# Altium schematic symbol library Zmod.SchLib: 44 symbols
Pins are listed as number, name and electrical type; pins without a type are passive.

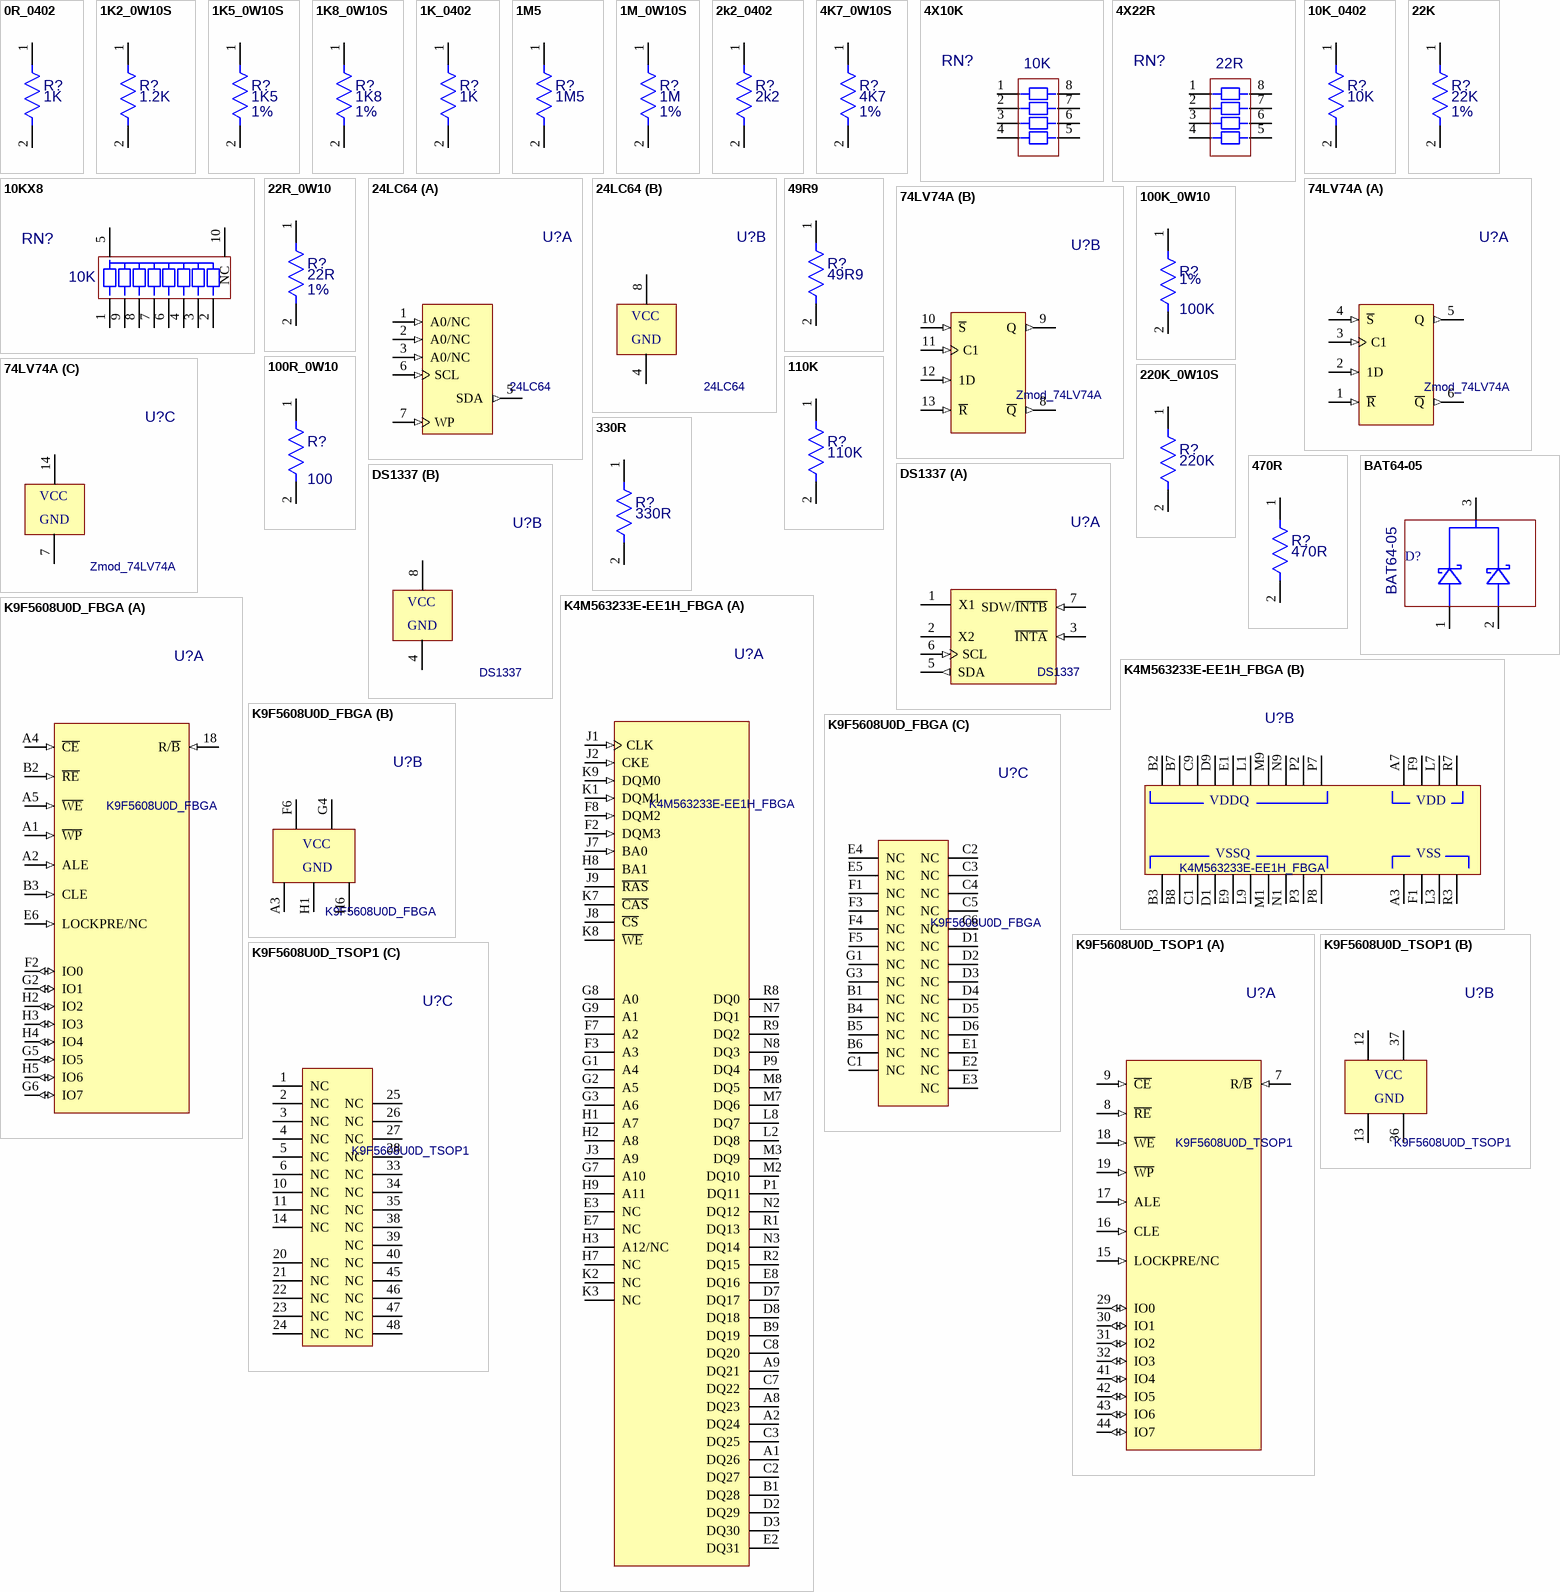
[diagram p0: symbols 0R_0402 to K9F5608U0D_TSOP1]

## 0R_0402
designator R?  value 1K  (hidden comment: 0R_0402)
Resistor, 0R_0402; PartNumber: ZivMod_0R_0402; Power Rating: 0W10; ECAD_Revision: 1; Librarian: UK; Tolerance: 1%; Item: *
simulation model RESISTOR
signal-integrity model Res
footprint 2-0402 (Chip Resistor; Body 1 x 0.5 mm (LxW typ))
footprint 1005[0402] (Chip Resistor; Body 1.1 x 0.5 mm (LxW typ))
pins: 1, 2

## 1K2_0W10S
designator R?, comment value 1.2K  (hidden comment: Zmod_1.2K)
Resistor, 1.2K; Power Rating: 0W10; ECAD_Revision: 1; Librarian: UK; Tolerance: 1%; PartNumber: Zmod_1.2K; Item: *
simulation model RESISTOR
footprint R0603
signal-integrity model Res
pins: 1, 2

## 1K5_0W10S
designator R?, comment value 1K5  Tolerance: 1%  (hidden comment: RXF1K5000/FZQ)
Resistor, 1.5K; Power Rating: 0W10; ECAD_Revision: 1; Librarian: UK; PartNumber: RXF1K5000/FZQ; Item: *
simulation model RESISTOR
footprint R0603
signal-integrity model Res
pins: 1, 2

## 1K8_0W10S
designator R?, comment value 1K8  Tolerance: 1%  (hidden comment: RXF1K8000/FZQ)
Resistor, 1K8; Power Rating: 0W10; ECAD_Revision: 1; Librarian: UK; PartNumber: RXF1K8000/FZQ; Item: *
simulation model RESISTOR
footprint R0603
signal-integrity model Res
pins: 1, 2

## 1K_0402
designator R?  value 1K  (hidden comment: 1K_0402)
Resistor, 1K_0402; PartNumber: ZivMod_1K_0402; Power Rating: 0W10; ECAD_Revision: 1; Librarian: UK; Tolerance: 1%; Item: *
simulation model RESISTOR
signal-integrity model Res
footprint 2-0402 (Chip Resistor; Body 1 x 0.5 mm (LxW typ))
footprint 1005[0402] (Chip Resistor; Body 1.1 x 0.5 mm (LxW typ))
pins: 1, 2

## 1M5
designator R?, comment value 1M5  (hidden comment: Zmod_1M5)
Resistor, 1.5M; Power Rating: 0W63; ECAD_Revision: 1; Librarian: UK; Tolerance: 1%; PartNumber: Zmod_1M5; Item: *
simulation model RESISTOR
footprint R0603
signal-integrity model Res
pins: 1, 2

## 1M_0W10S
designator R?, comment value 1M  Tolerance: 1%  (hidden comment: RXF1M0000/FZQ)
Resistor, 1M; Power Rating: 0W10; ECAD_Revision: 1; Librarian: UK; PartNumber: RXF1M0000/FZQ; Item: *
simulation model RESISTOR
footprint R0603
signal-integrity model Res
pins: 1, 2

## 2k2_0402
designator R?  value 2k2  (hidden comment: 2k2_0402)
Resistor, 2k2_0402; PartNumber: ZivMod_2k2_0402; Power Rating: 0W10; ECAD_Revision: 1; Librarian: UK; Tolerance: 1%; Item: *
simulation model RESISTOR
signal-integrity model Res
footprint 2-0402 (Chip Resistor; Body 1 x 0.5 mm (LxW typ))
footprint 1005[0402] (Chip Resistor; Body 1.1 x 0.5 mm (LxW typ))
pins: 1, 2

## 4K7_0W10S
designator R?, comment value 4K7  Tolerance: 1%  (hidden comment: RXF4K7000/FZQ)
Resistor, 4.7K; Power Rating: 0W10; ECAD_Revision: 1; Librarian: UK; PartNumber: RXF4K7000/FZQ; Item: *
simulation model RESISTOR
footprint R0603
signal-integrity model Res
pins: 1, 2

## 4X10K
designator RN?, comment value 10K  (hidden comment: Zmod_4X10K)
Resistor Network, 4X10K; Power Rating: 63mW/R, 250mW Total; Tolerance: 5%; ECAD_Revision: 2; Librarian: US; PartNumber: Zmod_4X10K; Item: *; HelpURL: K:\ACCELEDA\PDF Spec Files\Resistor/BCN16 4.pdf
footprint SMRN8
pins: 1, 2, 3, 4, 5, 6, 7, 8

## 4X22R
designator RN?, comment value 22R  (hidden comment: Zmod_22R)
Resistor Network, 4X22R; Power Rating: 63mW/R, 250mW Total; Tolerance: 5%; ECAD_Revision: 2; Librarian: US; PartNumber: Zmod_22R; Item: *; HelpURL: K:\ACCELEDA\PDF Spec Files\Resistor/BCN16 4.pdf
footprint SMRN8
pins: 1, 2, 3, 4, 5, 6, 7, 8

## 10K_0402
designator R?  value 10K  (hidden comment: 10K_0402)
Resistor, 10K_0402; PartNumber: ZivMod_10K_0402; Power Rating: 0W10; ECAD_Revision: 1; Librarian: UK; Tolerance: 1%; Item: *
simulation model RESISTOR
signal-integrity model Res
footprint 2-0402 (Chip Resistor; Body 1 x 0.5 mm (LxW typ))
footprint 1005[0402] (Chip Resistor; Body 1.1 x 0.5 mm (LxW typ))
pins: 1, 2

## 10KX8
designator RN?  value 10K  (hidden comment: 10KX8)
Resistor Network, 10KX8; PartNumber: Zmod_10KX8; Power Rating: 63mW/R, 250mW Total; Tolerance: 5%; ECAD_Revision: 2; Librarian: US; Item: *; HelpURL: K:\ACCELEDA\PDF Spec Files\Resistor/BCN16 4.pdf
footprint SMRN10P
pins: 1, 2, 3, 4, 5, 6, 7, 8, 9, 10 NC

## 22K
designator R?  Tolerance: 1%  (hidden comment: 22K)
Resistor, 22K; PartNumber: Zmod_22K; Power Rating: 0W63; ECAD_Revision: 1; Librarian: UK; Item: *; Value: 22K
simulation model RESISTOR
footprint R0603
signal-integrity model Res
pins: 1, 2

## 22R_0W10
designator R?, comment value 22R  Tolerance: 1%  (hidden comment: AWT25-000137)
Resistor, 22R; Power Rating: 0W10; ECAD_Revision: 1; Librarian: UK; PartNumber: AWT25-000137; Item: *
simulation model RESISTOR
footprint R0603
signal-integrity model Res
pins: 1, 2

## 24LC64
designator U?
IC2_Serial_Rom; PartNumber: Zmod_24LC64; Power Rating: ??; ECAD_Revision: 1; Librarian: UK; HelpURL: C:\ZRLaptop\Altium6Work_Laptop\ZIM_V1\Module\74lv74ad.pdf; Item: *
footprint TSSOP8
part A pins: 1 A0/NC (in), 2 A0/NC (in), 3 A0/NC (in), 5 SDA (out), 6 SCL (in), 7 WP (in)
part B pins: 4 (power), 8 (power)
part B text: VCC; GND

## 49R9
designator R?
Resistor, 49R9; PartNumber: Zmod_49R9; Power Rating: 0W63; ECAD_Revision: 1; Librarian: UK; Tolerance: 1%; Item: *; Value: 49R9
simulation model RESISTOR
footprint R0603
signal-integrity model Res
pins: 1, 2

## 74LV74A
designator U?, comment Zmod_74LV74A
Dual_Positive_Edged_Dtype_triggered_Flipflops; Power Rating: ??; ECAD_Revision: 1; Librarian: UK; PartNumber: Zmod_74LV74A; HelpURL: C:\ZRLaptop\Altium6Work_Laptop\ZIM_V1\Module\74lv74ad.pdf; Item: *
footprint SOIC14
footprint DB014 (SSOP, Plastic; 14 Leads; Body Width 5.3 mm; Pitch 0.65 mm)
footprint PW014 (Shrink Small Outline; 14 Leads; Body Width 4.4 mm; Pitch 0.65 mm)
part A pins: 1 ~{R} (in), 2 1D (in), 3 C1 (in), 4 ~{S} (in), 5 Q (out), 6 ~{Q} (out)
part B pins: 8 ~{Q} (out), 9 Q (out), 10 ~{S} (in), 11 C1 (in), 12 1D (in), 13 ~{R} (in)
part C pins: 7 (power), 14 (power)
part C text: VCC; GND

## 100K_0W10
designator R?, comment value 100K  Tolerance: 1%  (hidden comment: 53635-4814)
Resistor, 100K; Power Rating: 0W10; ECAD_Revision: 1; Librarian: US; PartNumber: 53635-4814; Item: *
simulation model RESISTOR
footprint R0603
signal-integrity model Res
pins: 1, 2

## 100R_0W10
designator R?, comment 100
Resistor, 100 Ohms; PartNumber: 53635-1935; Power Rating: 0W635; ECAD_Revision: 1; Librarian: US; Tolerance: 1%; Item: *; Value: 100
simulation model RESISTOR
footprint R0603
signal-integrity model Res
pins: 1, 2

## 110K
designator R?
Resistor, 110K; PartNumber: Zmod_110K; Power Rating: 0W10; ECAD_Revision: 1; Librarian: UK; Tolerance: 1%; Item: *; Value: 110K
simulation model RESISTOR
footprint R0603
signal-integrity model Res
pins: 1, 2

## 220K_0W10S
designator R?, comment value 220K  (hidden comment: ZivMod_TBA)
Resistor, 220K; Power Rating: 0W10; ECAD_Revision: 1; Librarian: UK; Tolerance: 1%; TempCoefficient: 100ppm; PartNumber: ZivMod_TBA; Item: *
simulation model RESISTOR
footprint R0603
signal-integrity model Res
pins: 1, 2

## 330R
designator R?
Resistor, 330R; PartNumber: ZivMod_TBA; Power Rating: 0W6325; ECAD_Revision: 1; Librarian: UK; Tolerance: 1%; TempCoefficient: 200ppm; Item: *; Value: 330R
simulation model RESISTOR
footprint R0603
signal-integrity model Res
pins: 1, 2

## 470R
designator R?
Resistor, 470R; PartNumber: ZivMod_TBA; Power Rating: 0W6325; ECAD_Revision: 1; Librarian: UK; Tolerance: 1%; TempCoefficient: NA; Item: *; Value: 470R
simulation model RESISTOR
footprint R0603
signal-integrity model Res
pins: 1, 2

## BAT64-05
designator D?
Diode, BAT64-05; ECAD_Revision: 2; Librarian: UK; PartNumber: BAT64-05; HelpURL: *; Item: *; Tolerance: *; Value: BAT64-05
footprint SOT23
pins: 1 A, 2 A, 3 COM

## DS1337
designator U?
IC2_Real_time_Clock; PartNumber: Zmod_DS1337; Power Rating: ??; ECAD_Revision: 1; Librarian: UK; HelpURL: C:\ZRLaptop\Altium6Work_Laptop\ZIM_V1\Module\74lv74ad.pdf; Item: *
footprint 8uSOP (Shrink Small Outline; 8 Leads; Body Width 3 mm; Pitch 0.65 mm)
footprint uSOP8 (Shrink Small Outline; 8 Leads; Body Width 3 mm; Pitch 0.65 mm)
part A pins: 1 X1, 2 X2, 3 ~{INTA} (in), 5 SDA (out), 6 SCL (in), 7 SDW/~{INTB} (in)
part B pins: 4 (power), 8 (power)
part B text: VCC; GND

## K4M563233E-EE1H_FBGA
designator U?
32M*8_Flash_Memory; PartNumber: Zmod_K4M563233E-EE1H_FBGA; Power Rating: ??; ECAD_Revision: 1; Librarian: UK; HelpURL: C:\ZRLaptop\Altium6Work_Laptop\ZIM_V1\Module\74lv74ad.pdf; Item: *
part A pins: A1 DQ26 (power), A2 DQ24 (power), A8 DQ23 (power), A9 DQ21 (power), B1 DQ28 (power), B9 DQ19 (power), C2 DQ27 (power), C3 DQ25 (power), C7 DQ22 (power), C8 DQ20 (power), D2 DQ29 (power), D3 DQ30 (power), D7 DQ17 (power), D8 DQ18 (power), E2 DQ31 (power), E3 NC (power), E7 NC (power), E8 DQ16 (power), F2 DQM3 (in), F3 A3 (power), F7 A2 (power), F8 DQM2 (in), G1 A4 (power), G2 A5 (power), G3 A6 (power), G7 A10 (power), G8 A0 (power), G9 A1 (power), H1 A7 (power), H2 A8 (power), H3 A12/NC (power), H7 NC (power), H8 BA1 (power), H9 A11 (power), J1 CLK (in), J2 CKE (in), J3 A9 (power), J7 BA0 (in), J8 ~{CS} (power), J9 ~{RAS} (power), K1 DQM1 (in), K2 NC (power), K3 NC (power), K7 ~{CAS} (power), K8 ~{WE} (power), K9 DQM0 (in), L2 DQ8 (power), L8 DQ7 (power), M2 DQ10 (power), M3 DQ9 (power), M7 DQ6 (power), M8 DQ5 (power), N2 DQ12 (power), N3 DQ14 (power), N7 DQ1 (power), N8 DQ3 (power), P1 DQ11 (power), P9 DQ4 (power), R1 DQ13 (power), R2 DQ15 (power), R8 DQ0 (power), R9 DQ2 (power)
part B pins: A3 (power), A7 (power), B2 (power), B3 (power), B7 (power), B8 (power), C1 (power), C9 (power), D1 (power), D9 (power), E1 (power), E9 (power), F1 (power), F9 (power), L1 (power), L3 (power), L7 (power), L9 (power), M1 (power), M9 (power), N1 (power), N9 (power), P2 (power), P3 (power), P7 (power), P8 (power), R3 (power), R7 (power)
part B text: VDDQ; VDD; VSSQ; VSS

## K9F5608U0D_FBGA
designator U?
32M*8_Flash_Memory; PartNumber: Zmod_K9F5608U0D_FBGA; Power Rating: ??; ECAD_Revision: 1; Librarian: UK; HelpURL: C:\ZRLaptop\Altium6Work_Laptop\ZIM_V1\Module\74lv74ad.pdf; Item: *
part A pins: 18 R/~{B} (in), A1 ~{WP} (in), A2 ALE (in), A4 ~{CE} (in), A5 ~{WE} (in), B2 ~{RE} (in), B3 CLE (in), E6 LOCKPRE/NC (in), F2 IO0 (io), G2 IO1 (io), G5 IO5 (io), G6 IO7 (io), H2 IO2 (io), H3 IO3 (io), H4 IO4 (io), H5 IO6 (io)
part B pins: A3 (power), F6 (power), G4 (power), H1 (power), H6 (power)
part C pins: B1 NC, B4 NC, B5 NC, B6 NC, C1 NC, C2 NC, C3 NC, C4 NC, C5 NC, C6 NC, D1 NC, D2 NC, D3 NC, D4 NC, D5 NC, D6 NC, E1 NC, E2 NC, E3 NC, E4 NC, E5 NC, F1 NC, F3 NC, F4 NC, F5 NC, G1 NC, G3 NC
part B text: VCC; GND

## K9F5608U0D_TSOP1
designator U?
32M*8_Flash_Memory; PartNumber: Zmod_K9F5608U0D_TSOP1; Power Rating: ??; ECAD_Revision: 1; Librarian: UK; HelpURL: C:\ZRLaptop\Altium6Work_Laptop\ZIM_V1\Module\74lv74ad.pdf; Item: *
footprint TSOP48
footprint TSOP10x18 (Shrink Small Outline; 48 Leads; Body Width 16.4 mm; Pitch 0.4 mm)
footprint TSOP48
part A pins: 7 R/~{B} (in), 8 ~{RE} (in), 9 ~{CE} (in), 15 LOCKPRE/NC (in), 16 CLE (in), 17 ALE (in), 18 ~{WE} (in), 19 ~{WP} (in), 29 IO0 (io), 30 IO1 (io), 31 IO2 (io), 32 IO3 (io), 41 IO4 (io), 42 IO5 (io), 43 IO6 (io), 44 IO7 (io)
part B pins: 12 (power), 13 (power), 36 (power), 37 (power)
part C pins: 1 NC, 2 NC, 3 NC, 4 NC, 5 NC, 6 NC, 10 NC, 11 NC, 14 NC, 20 NC, 21 NC, 22 NC, 23 NC, 24 NC, 25 NC, 26 NC, 27 NC, 28 NC, 33 NC, 34 NC, 35 NC, 38 NC, 39 NC, 40 NC, 45 NC, 46 NC, 47 NC, 48 NC
part B text: VCC; GND

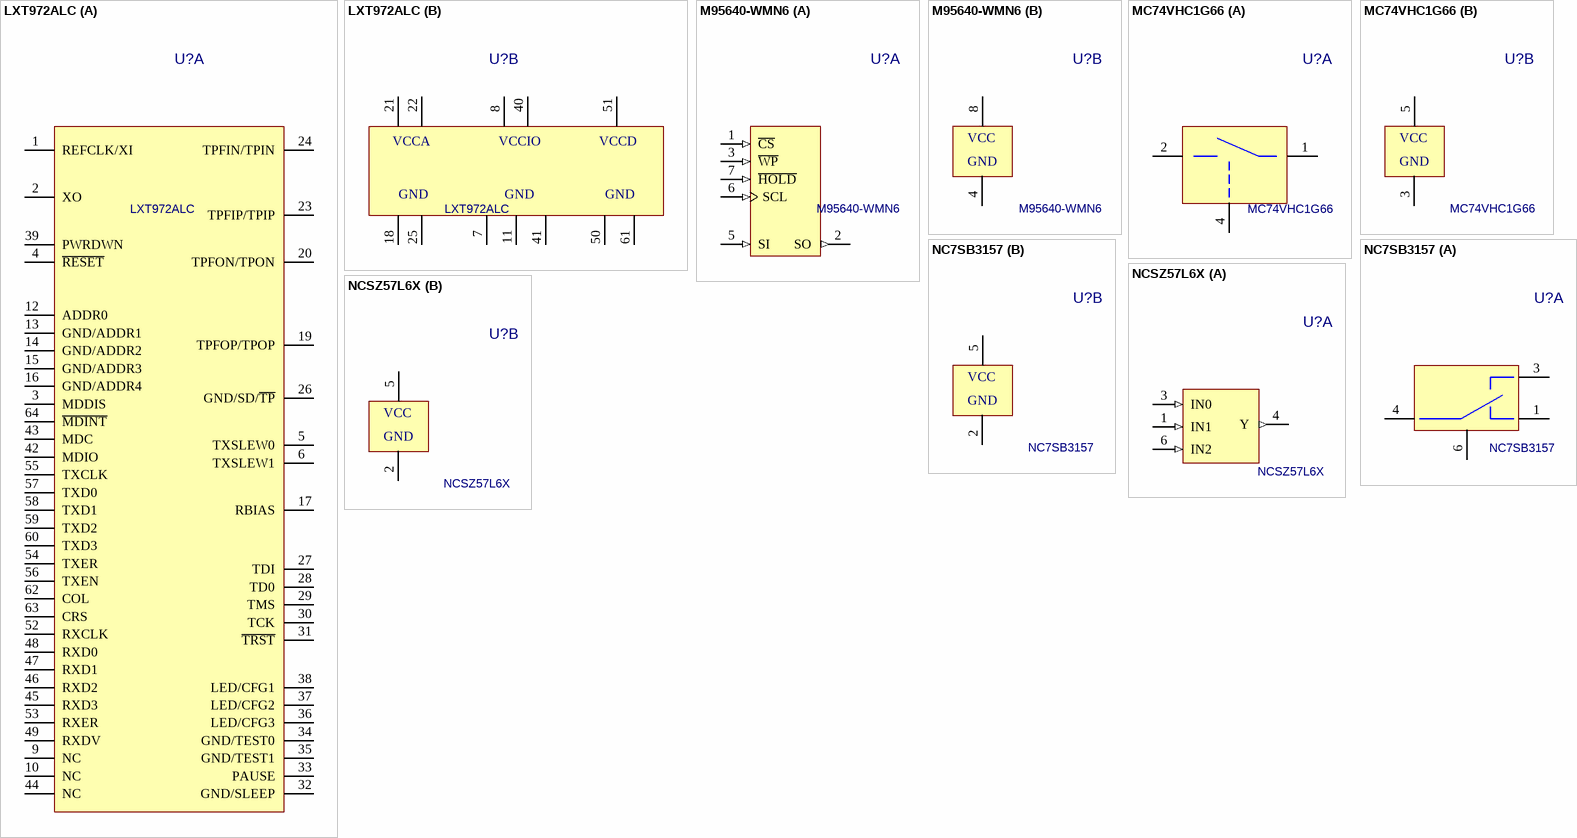
[diagram p1: symbols LXT972ALC to NCSZ57L6X]

## LXT972ALC
designator U?
SinglePort_10_100_PHY_Tranciever; PartNumber: Zmod_LXT972ALC; Power Rating: ??; ECAD_Revision: 1; Librarian: UK; HelpURL: C:\ZRLaptop\Altium6Work_Laptop\ZIM_V1\Module\74lv74ad.pdf; Item: *
footprint LQFP64
footprint LQFP64_N (64-Pin Thin Quad Flat Pack 0.8 mm Pitch, IPC Medium Density)
footprint LQFP64_N (64-Pin Thin Quad Flat Pack 0.8 mm Pitch, IPC Medium Density)
footprint LQFP64_M (64-Pin Thin Quad Flat Pack 0.8 mm Pitch, IPC Low Density)
footprint LQFP64_M (64-Pin Thin Quad Flat Pack 0.8 mm Pitch, IPC Low Density)
footprint LQFP64_L (64-Pin Thin Quad Flat Pack 0.8 mm Pitch, IPC High Density)
footprint LQFP64_N (64-Pin Thin Quad Flat Pack 0.8 mm Pitch, IPC Medium Density)
part A pins: 1 REFCLK/XI, 2 XO, 3 MDDIS, 4 ~{RESET}, 5 TXSLEW0, 6 TXSLEW1, 9 NC, 10 NC, 12 ADDR0, 13 GND/ADDR1, 14 GND/ADDR2, 15 GND/ADDR3, 16 GND/ADDR4, 17 RBIAS, 19 TPFOP/TPOP, 20 TPFON/TPON, 23 TPFIP/TPIP, 24 TPFIN/TPIN, 26 GND/SD/~{TP}, 27 TDI, 28 TD0, 29 TMS, 30 TCK, 31 ~{TRST}, 32 GND/SLEEP, 33 PAUSE, 34 GND/TEST0, 35 GND/TEST1, 36 LED/CFG3, 37 LED/CFG2, 38 LED/CFG1, 39 PWRDWN, 42 MDIO, 43 MDC, 44 NC, 45 RXD3, 46 RXD2, 47 RXD1, 48 RXD0, 49 RXDV, 52 RXCLK, 53 RXER, 54 TXER, 55 TXCLK, 56 TXEN, 57 TXD0, 58 TXD1, 59 TXD2, 60 TXD3, 62 COL, 63 CRS, 64 ~{MDINT}
part B pins: 7 (power), 8 (power), 11 (power), 18 (power), 21 (power), 22 (power), 25 (power), 40 (power), 41 (power), 50 (power), 51 (power), 61 (power)
part B text: VCCA; VCCIO; VCCD; GND

## M95640-WMN6
designator U?
IC2_Serial_EEPRom; PartNumber: Zmod_M95640-WMN6; Power Rating: ??; ECAD_Revision: 1; Librarian: UK; HelpURL: C:\ZRLaptop\Altium6Work_Laptop\ZIM_V1\Module\74lv74ad.pdf; Item: *
footprint SO8 (Small Outline; 8 Leads; Body Width 3.9 mm; Pitch 1.27 mm)
footprint SO-8_M (8-Pin Small Outline Integrated Circuit 1.27 mm Pitch, IPC Low Density)
footprint NSO8_L (8-Pin Small Outline Integrated Circuit 1.27 mm Pitch, IPC High Density)
part A pins: 1 ~{CS} (in), 2 SO (out), 3 ~{WP} (in), 5 SI (in), 6 SCL (in), 7 ~{HOLD} (in)
part B pins: 4 (power), 8 (power)
part B text: VCC; GND

## MC74VHC1G66
designator U?
Normally_Open_Analog_Switch; PartNumber: Zmod_MC74VHC1G66; Power Rating: ??; ECAD_Revision: 1; Librarian: UK; HelpURL: C:\ZRLaptop\Altium6Work_Laptop\ZIM_V1\Module\74lv74ad.pdf; Item: *
footprint DCK005 (SOT-353/SC-88A; 5 Leads; Body 2.2 x 2.3 mm, inc. leads (LxW max))
footprint SOT353 (SOT-353/SC-88A; 5 Leads; Body 2.2 x 2.2 mm, inc. leads (LxW max))
footprint SOT23-5
footprint SOT-23-5 (SOT-23/SC-74A; 5 Leads; Body 3 x 3.1 mm, inc. leads (LxW max))
part A pins: 1, 2, 4
part B pins: 3 (power), 5 (power)
part B text: VCC; GND

## NC7SB3157
designator U?
2:1_Mux_Demux_Bus_Switch; PartNumber: Zmod_NC7SB3157; Power Rating: ??; ECAD_Revision: 1; Librarian: UK; HelpURL: C:\ZRLaptop\Altium6Work_Laptop\ZIM_V1\Module\74lv74ad.pdf; Item: *
footprint SC70-6
part A pins: 1, 3, 4, 6
part B pins: 2 (power), 5 (power)
part B text: VCC; GND

## NCSZ57L6X
designator U?
Tiny_2Input_Logic_Gate; PartNumber: Zmod_NCSZ57L6X; Power Rating: ??; ECAD_Revision: 1; Librarian: UK; HelpURL: C:\ZRLaptop\Altium6Work_Laptop\ZIM_V1\Module\74lv74ad.pdf; Item: *
footprint SC70-6
part A pins: 1 IN1 (in), 3 IN0 (in), 4 Y (out), 6 IN2 (in)
part B pins: 2 (power), 5 (power)
part B text: VCC; GND

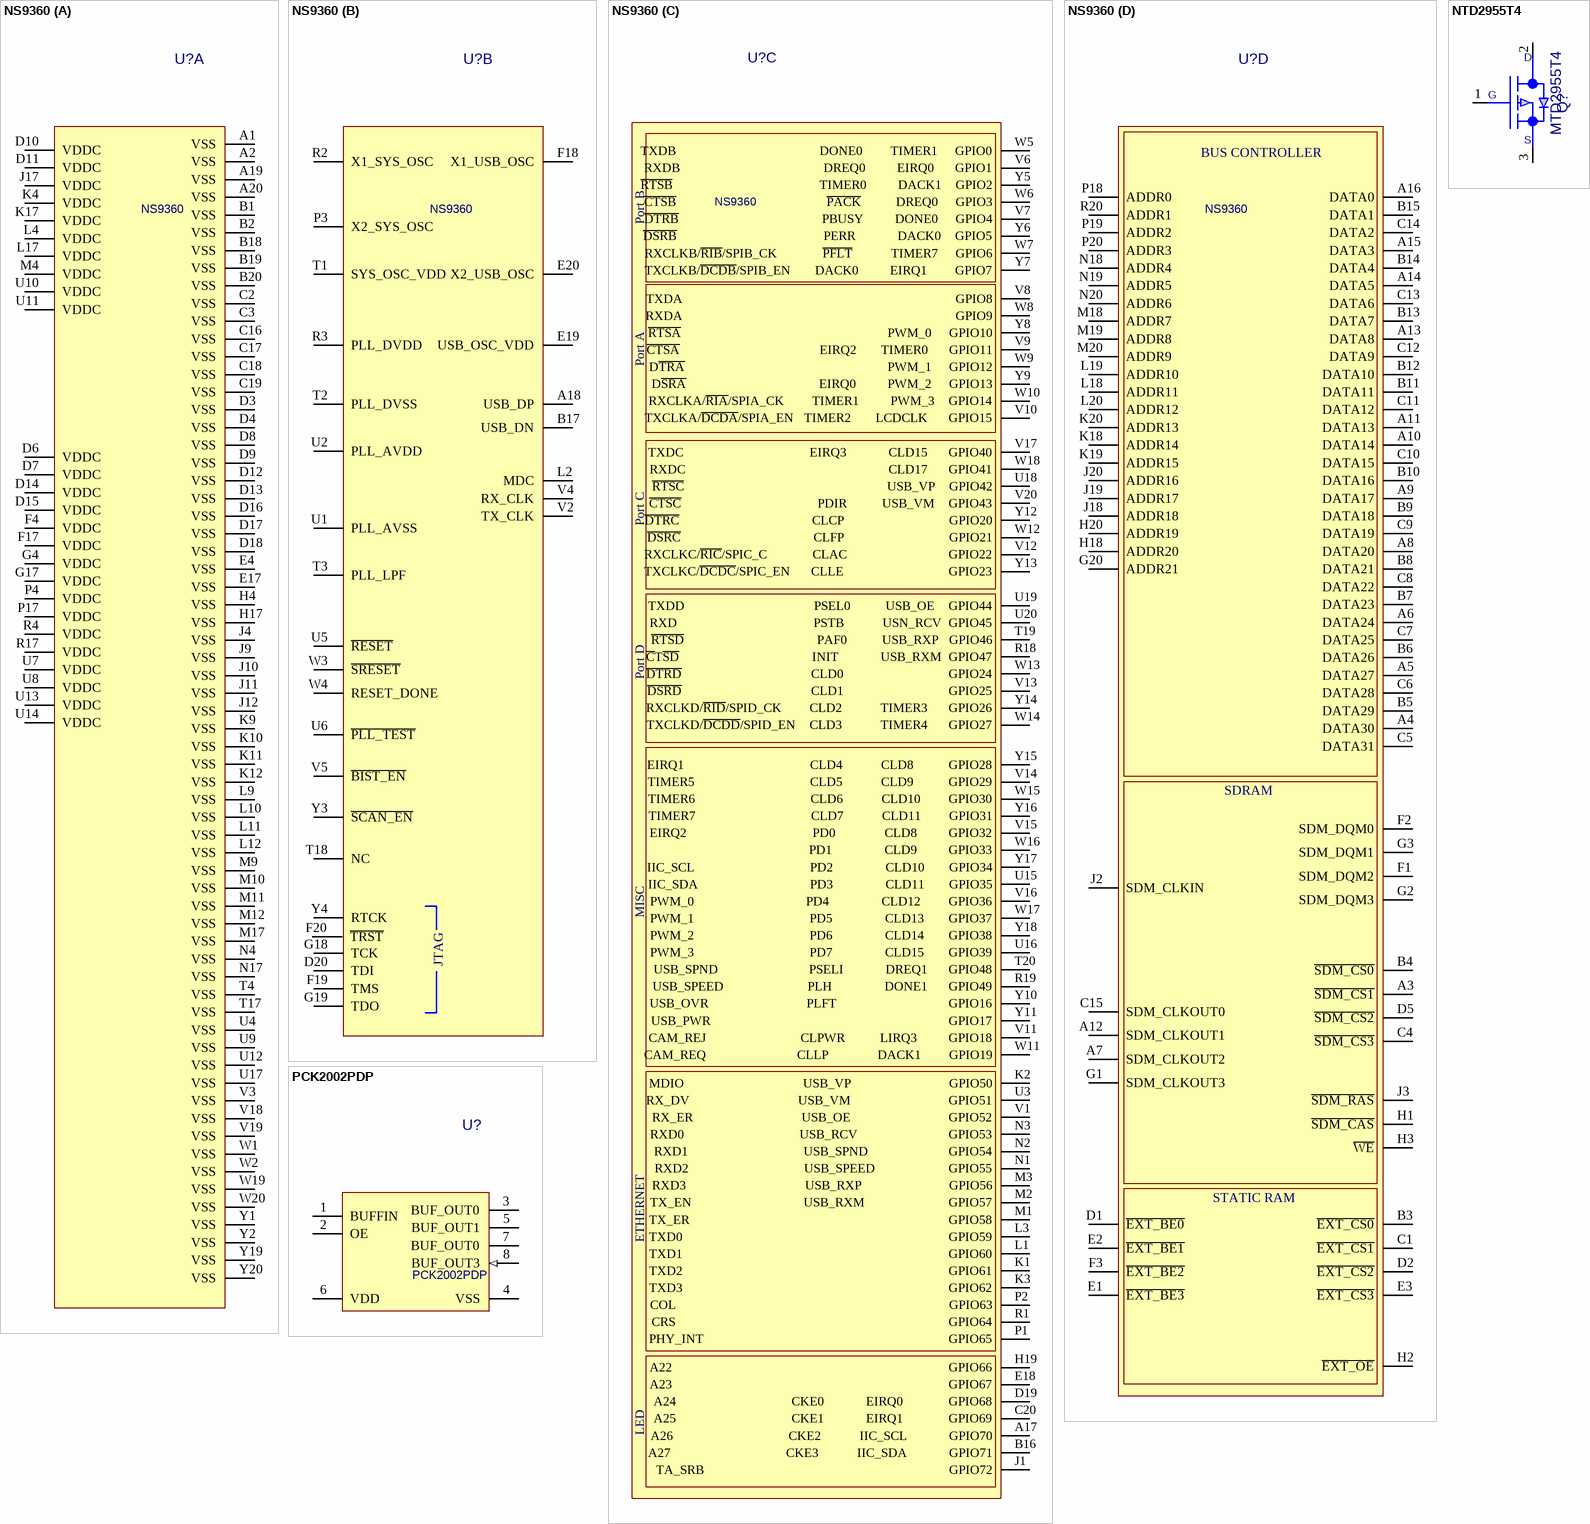
[diagram p2: symbols NS9360 to PCK2002PDP]

## NS9360
designator U?
ARM9_32bit_Microcontroller; PartNumber: Zmod_NS9360; Power Rating: ??; ECAD_Revision: 1; Librarian: UK; HelpURL: C:\ZRLaptop\Altium6Work_Laptop\ZIM_V1\Module\74lv74ad.pdf; Item: *
footprint BGA272 (272-Ball Ball Grid Array (BGA272))
footprint BGA272 (272-Ball Ball Grid Array (BGA272))
part A pins: A1 VSS (power) "0V POWER", A2 VSS (power) "0V POWER", A19 VSS (power) "0V POWER", A20 VSS (power) "0V POWER", B1 VSS (power) "0V POWER", B2 VSS (power) "0V POWER", B18 VSS (power) "0V POWER", B19 VSS (power) "0V POWER", B20 VSS (power) "0V POWER", C2 VSS (power) "0V POWER", C3 VSS (power) "0V POWER", C16 VSS (power) "0V POWER", C17 VSS (power) "0V POWER", C18 VSS (power) "0V POWER", C19 VSS (power) "0V POWER", D3 VSS (power) "0V POWER", D4 VSS (power) "0V POWER", D6 VDDC, D7 VDDC, D8 VSS (power) "0V POWER", D9 VSS (power) "0V POWER", D10 VDDC, D11 VDDC, D12 VSS (power) "0V POWER", D13 VSS (power) "0V POWER", D14 VDDC, D15 VDDC, D16 VSS (power) "0V POWER", D17 VSS (power) "0V POWER", D18 VSS (power) "0V POWER", E4 VSS (power) "0V POWER", E17 VSS (power) "0V POWER", F4 VDDC, F17 VDDC, G4 VDDC, G17 VDDC, H4 VSS (power) "0V POWER", H17 VSS (power) "0V POWER", J4 VSS (power) "0V POWER", J9 VSS (power) "0V POWER", J10 VSS (power) "0V POWER", J11 VSS (power) "0V POWER", J12 VSS (power) "0V POWER", J17 VDDC, K4 VDDC, K9 VSS (power) "0V POWER", K10 VSS (power) "0V POWER", K11 VSS (power) "0V POWER", K12 VSS (power) "0V POWER", K17 VDDC, L4 VDDC, L9 VSS (power) "0V POWER", L10 VSS (power) "0V POWER", L11 VSS (power) "0V POWER", L12 VSS (power) "0V POWER", L17 VDDC, M4 VDDC, M9 VSS (power) "0V POWER", M10 VSS (power) "0V POWER", M11 VSS (power) "0V POWER", M12 VSS (power) "0V POWER", M17 VSS (power) "0V POWER", N4 VSS (power) "0V POWER", N17 VSS (power) "0V POWER", P4 VDDC, P17 VDDC, R4 VDDC, R17 VDDC, T4 VSS (power) "0V POWER", T17 VSS (power) "0V POWER", U4 VSS (power) "0V POWER", U7 VDDC, U8 VDDC, U9 VSS (power) "0V POWER", U10 VDDC, U11 VDDC, U12 VSS (power) "0V POWER", U13 VDDC, U14 VDDC, U17 VSS (power) "0V POWER", V3 VSS (power) "0V POWER", V18 VSS (power) "0V POWER", V19 VSS (power) "0V POWER", W1 VSS (power) "0V POWER", W2 VSS (power) "0V POWER", W19 VSS (power) "0V POWER", W20 VSS (power) "0V POWER", Y1 VSS (power) "0V POWER", Y2 VSS (power) "0V POWER", Y19 VSS (power) "0V POWER", Y20 VSS (power) "0V POWER"
part B pins: A18 USB_DP, B17 USB_DN, D20 TDI, E19 USB_OSC_VDD, E20 X2_USB_OSC, F18 X1_USB_OSC, F19 TMS, F20 ~{TRST}, G18 TCK, G19 TDO, L2 MDC, P3 X2_SYS_OSC, R2 X1_SYS_OSC, R3 PLL_DVDD, T1 SYS_OSC_VDD, T2 PLL_DVSS, T3 PLL_LPF, T18 NC, U1 PLL_AVSS, U2 PLL_AVDD, U5 ~{RESET}, U6 ~{PLL_TEST}, V2 TX_CLK, V4 RX_CLK, V5 ~{BIST_EN}, W3 ~{SRESET}, W4 RESET_DONE, Y3 ~{SCAN_EN}, Y4 RTCK
part C pins: A17 A26                                 CKE2           IIC_SCL            GPIO70, B16 A27                                 CKE3           IIC_SDA            GPIO71, C20 A25                                 CKE1            EIRQ1             GPIO69, D19 A24                                 CKE0            EIRQ0             GPIO68, E18 A23                                                                               GPIO67, H19 A22                                                                               GPIO66, J1 TA_SRB                                                                      GPIO72, K1 TXD2                                                                            GPIO61, K2 MDIO                                  USB_VP                            GPIO50, K3 TXD3                                                                            GPIO62, L1 TXD1                                                                            GPIO60, L3 TXD0                                                                            GPIO59, M1 TX_ER                                                                          GPIO58, M2 TX_EN                                USB_RXM                        GPIO57, M3 RXD3                                  USB_RXP                         GPIO56, N1 RXD2                                 USB_SPEED                     GPIO55, N2 RXD1                                 USB_SPND                       GPIO54, N3 RXD0                                 USB_RCV                          GPIO53, P1 PHY_INT                                                                      GPIO65, P2 COL                                                                              GPIO63, R1 CRS                                                                              GPIO64, R18 ~{C}T~{SD}                                      INIT            USB_RXM  GPIO47, R19 USB_SPEED                        PLH               DONE1      GPIO49, T19 ~{RTSD}                                      PAF0          USB_RXP   GPIO46, T20 USB_SPND                          PSELI            DREQ1      GPIO48, U3 RX_DV                               USB_VM                            GPIO51, U15 IIC_SDA                                PD3               CLD11       GPIO35, U16 PWM_3                                 PD7               CLD15       GPIO39, U18 ~{RTSC}                                                          USB_VP    GPIO42, U19 TXDD                                     PSEL0          USB_OE    GPIO44, U20 RXD                                       PSTB           USN_RCV  GPIO45, V1 RX_ER                               USB_OE                            GPIO52, V6 RXDB                                         DREQ0         EIRQ0      GPIO1, V7 ~{DTRB}                                         PBUSY         DONE0     GPIO4, V8 TXDA                                                                              GPIO8, V9 ~{CTSA}                                        EIRQ2       TIMER0      GPIO11, V10 TXCLKA/~{DCDA}/SPIA_EN   TIMER2       LCDCLK      GPIO15, V11 CAM_REJ                           CLPWR          LIRQ3         GPIO18, V12 RXCLKC/~{RIC}/SPIC_C             CLAC                             GPIO22, V13 ~{DSRD}                                     CLD1                              GPIO25, V14 TIMER5                                 CLD5           CLD9          GPIO29, V15 EIRQ2                                    PD0              CLD8         GPIO32, V16 PWM_0                                PD4               CLD12        GPIO36, V17 TXDC                                    EIRQ3            CLD15      GPIO40, V20 ~{CTSC}                                       PDIR          USB_VM    GPIO43, W5 TXDB                                         DONE0        TIMER1     GPIO0, W6 ~{CTSB}                                           ~{PACK}          DREQ0     GPIO3, W7 RXCLKB/~{RIB}/SPIB_CK             ~{PFLT}           TIMER7     GPIO6, W8 RXDA                                                                              GPIO9, W9 D~{TRA}                                                          PWM_1     GPIO12, W10 RXCLKA/~{RIA}/SPIA_CK        TIMER1         PWM_3    GPIO14, W11 CAM_REQ                          CLLP              DACK1        GPIO19, W12 ~{DSRC}                                      CLFP                              GPIO21, W13 ~{DTRD}                                     CLD0                              GPIO24, W14 TXCLKD/~{DCDD}/SPID_EN    CLD3           TIMER4      GPIO27, W15 TIMER6                                 CLD6           CLD10        GPIO30, W16                                               PD1               CLD9         GPIO33, W17 PWM_1                                 PD5               CLD13       GPIO37, W18 RXDC                                                          CLD17      GPIO41, Y5  ~{RTSB}                                          TIMER0         DACK1    GPIO2, Y6 ~{DSRB}                                          PERR            DACK0    GPIO5, Y7 TXCLKB/~{DCDB}/SPIB_EN       DACK0         EIRQ1        GPIO7, Y8 ~{RTSA}                                                           PWM_0     GPIO10, Y9 D~{SRA}                                      EIRQ0         PWM_2     GPIO13, Y10 USB_OVR                            PLFT                                GPIO16, Y11 USB_PWR                                                                    GPIO17, Y12 ~{DTRC}                                      CLCP                              GPIO20, Y13 TXCLKC/~{DCDC}/SPIC_EN      CLLE                              GPIO23, Y14 RXCLKD/~{RID}/SPID_CK        CLD2           TIMER3      GPIO26, Y15 EIRQ1                                    CLD4           CLD8          GPIO28, Y16 TIMER7                                 CLD7           CLD11        GPIO31, Y17 IIC_SCL                                 PD2               CLD10       GPIO34, Y18 PWM_2                                 PD6               CLD14       GPIO38
part D pins: A3 ~{SDM_CS1}, A4 DATA30, A5 DATA27, A6 DATA24, A7 SDM_CLKOUT2, A8 DATA20, A9 DATA17, A10 DATA14, A11 DATA13, A12 SDM_CLKOUT1, A13 DATA8, A14 DATA5, A15 DATA3, A16 DATA0, B3 ~{EXT_CS0}, B4 ~{SDM_CS0}, B5 DATA29, B6 DATA26, B7 DATA23, B8 DATA21, B9 DATA18, B10 DATA16, B11 DATA11, B12 DATA10, B13 DATA7, B14 DATA4, B15 DATA1, C1 ~{EXT_CS1}, C4 ~{SDM_CS3}, C5 DATA31, C6 DATA28, C7 DATA25, C8 DATA22, C9 DATA19, C10 DATA15, C11 DATA12, C12 DATA9, C13 DATA6, C14 DATA2, C15 SDM_CLKOUT0, D1 ~{EXT_BE0}, D2 ~{EXT_CS2}, D5 ~{SDM_CS2}, E1 ~{EXT_BE3}, E2 ~{EXT_BE1}, E3 ~{EXT_CS3}, F1 SDM_DQM2, F2 SDM_DQM0, F3 ~{EXT_BE2}, G1 SDM_CLKOUT3, G2 SDM_DQM3, G3 SDM_DQM1, G20 ADDR21, H1 ~{SDM_CAS}, H2 ~{EXT_OE}, H3 ~{WE}, H18 ADDR20, H20 ADDR19, J2 SDM_CLKIN, J3 ~{SDM_RAS}, J18 ADDR18, J19 ADDR17, J20 ADDR16, K18 ADDR14, K19 ADDR15, K20 ADDR13, L18 ADDR11, L19 ADDR10, L20 ADDR12, M18 ADDR7, M19 ADDR8, M20 ADDR9, N18 ADDR4, N19 ADDR5, N20 ADDR6, P18 ADDR0, P19 ADDR2, P20 ADDR3, R20 ADDR1
part B text: JTAG
part C text: Port B; Port A; Port C; Port D; MISC; ETHERNET; LED
part D text: BUS CONTROLLER; SDRAM; STATIC RAM

## NTD2955T4
designator Q?, comment value MTD2955T4  (hidden comment: FXP/RFD15P05SM)
Transistor, MTD2955T4; ECAD_Revision: 2; Librarian: UK; PartNumber: FXP/RFD15P05SM; Item: *
footprint DPAK
pins: 1 G, 2 D, 3 S

## PCK2002PDP
designator U?
140Mhz_PCI_Clock_Buffer; PartNumber: Zmod_PCK2002PDP; Power Rating: ??; ECAD_Revision: 1; Librarian: UK; HelpURL: C:\ZRLaptop\Altium6Work_Laptop\ZIM_V1\Module\74lv74ad.pdf; Item: *
footprint TSSOP8
footprint TSSOP-8 (Shrink Small Outline; 8 Leads; Body Width 4.4 mm; Pitch 0.65 mm)
pins: 1 BUFFIN, 2 OE, 3 BUF_OUT0, 4 VSS, 5 BUF_OUT1, 6 VDD, 7 BUF_OUT0, 8 BUF_OUT3 (in)

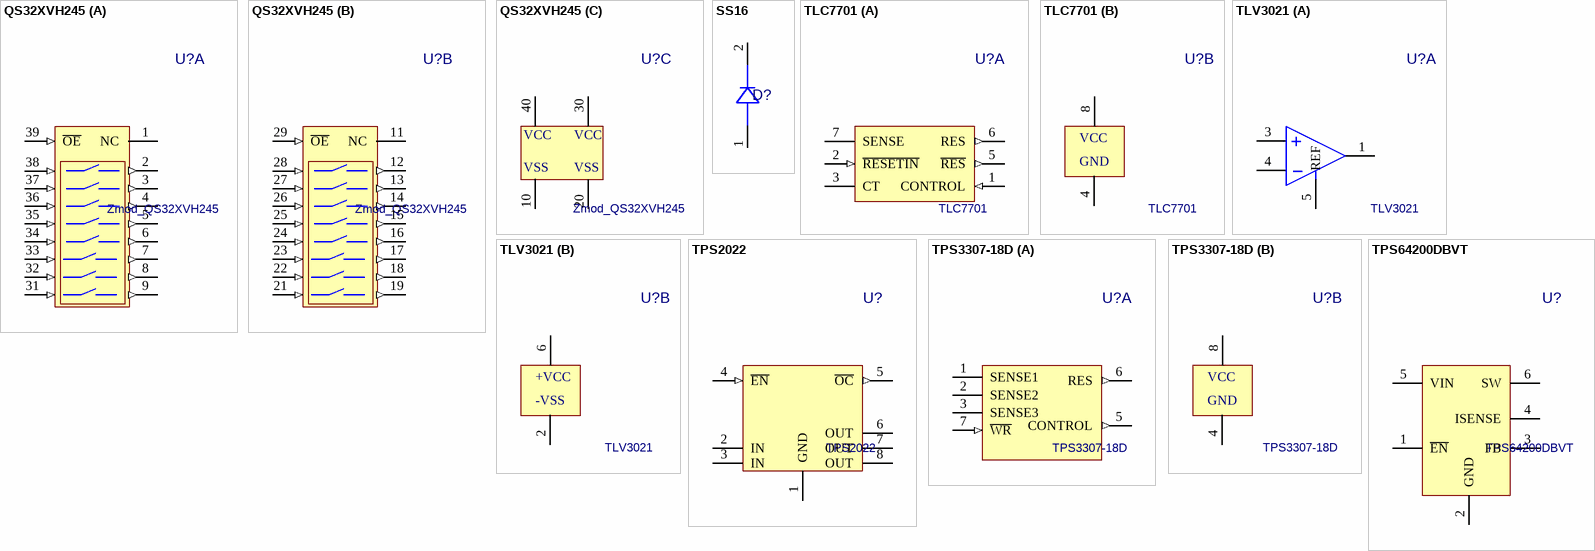
[diagram p3: symbols QS32XVH245 to TPS64200DBVT]

## QS32XVH245
designator U?, comment Zmod_QS32XVH245
16BIT_HighBandwith_Bus_Switch; Power Rating: ??; ECAD_Revision: 1; Librarian: UK; PartNumber: Zmod_QS32XVH245; HelpURL: C:\ZRLaptop\Altium6Work_Laptop\ZIM_V1\Module\74lv74ad.pdf; Item: *
part A pins: 1 NC, 2 (out), 3 (out), 4 (out), 5 (out), 6 (out), 7 (out), 8 (out), 9 (out), 31 (in), 32 (in), 33 (in), 34 (in), 35 (in), 36 (in), 37 (in), 38 (in), 39 ~{OE} (in)
part B pins: 11 NC, 12 (out), 13 (out), 14 (out), 15 (out), 16 (out), 17 (out), 18 (out), 19 (out), 21 (in), 22 (in), 23 (in), 24 (in), 25 (in), 26 (in), 27 (in), 28 (in), 29 ~{OE} (in)
part C pins: 10 (power), 20, 30 (power), 40 (power)
part C text: VCC; VSS

## SS16
designator D?  (value not drawn)
Diode, SS16; ECAD_Revision: 1; PartNumber: SS16; Item: *; Value: SS16
footprint DO214 (DO-214-AC/SMA; 2 C-Bend Leads; Body 5.3 x 2.6 mm, inc. leads (LxW))
pins: 1 A, 2 K

## TLC7701
designator U?
Micropower_Supply_Voltage_Supervisor; PartNumber: Zmod_TLC7701; Power Rating: ??; ECAD_Revision: 1; Librarian: UK; HelpURL: C:\ZRLaptop\Altium6Work_Laptop\ZIM_V1\Module\74lv74ad.pdf; Item: *
footprint SOIC8
footprint SOIC8_210
footprint D008_L (8-Pin Small Outline Integrated Circuit 1.27 mm Pitch, IPC High Density)
footprint D008_M (8-Pin Small Outline Integrated Circuit 1.27 mm Pitch, IPC Low Density)
footprint D008_N (8-Pin Small Outline Integrated Circuit 1.27 mm Pitch, IPC Medium Density)
footprint TSSOP8
footprint TSSOP-8 (Shrink Small Outline; 8 Leads; Body Width 4.4 mm; Pitch 0.65 mm)
part A pins: 1 CONTROL (in), 2 ~{RESETIN} (in), 3 CT, 5 ~{RES} (out), 6 RES (out), 7 SENSE
part B pins: 4 (power), 8 (power)
part B text: VCC; GND

## TLV3021
designator U?
Nanopower_Comparitor_With_Voltage_Reference; PartNumber: Zmod_TLV3021; Power Rating: ??; ECAD_Revision: 1; Librarian: UK; HelpURL: C:\ZRLaptop\Altium6Work_Laptop\ZIM_V1\Module\74lv74ad.pdf; Item: *
footprint SOT26A-6AL (SOT23, 6-Leads, Body 2.9x1.6mm, Pitch 0.95mm, Lead Span 2.5mm, IPC High Density)
footprint SOT26A-6AN (SOT23, 6-Leads, Body 2.9x1.6mm, Pitch 0.95mm, Lead Span 2.5mm, IPC Medium Density)
footprint SOT26A-6L (SOT23, 6-Leads, Body 2.9x1.7mm, Pitch 0.95mm, Lead Span 2.8mm, IPC High Density)
footprint SOT26A-6N (SOT23, 6-Leads, Body 2.9x1.7mm, Pitch 0.95mm, Lead Span 2.8mm, IPC Medium Density)
footprint SOT23-6 (SOT-457/SC-74; 6 Leads; Body 3.1 x 3.2 mm, inc. leads (LxW max))
part A pins: 1 OUT, 3 +, 4 -, 5 REF (power)
part B pins: 2 (power), 6 (power)
part B text: +VCC; -VSS

## TPS2022
designator U?
Power_Distribution_Switches; PartNumber: Zmod_TPS2022; Power Rating: ??; ECAD_Revision: 1; Librarian: UK; HelpURL: C:\ZRLaptop\Altium6Work_Laptop\ZIM_V1\Module\74lv74ad.pdf; Item: *
footprint SOIC8
footprint SOIC8_210
footprint D008_L (8-Pin Small Outline Integrated Circuit 1.27 mm Pitch, IPC High Density)
footprint D008_M (8-Pin Small Outline Integrated Circuit 1.27 mm Pitch, IPC Low Density)
footprint D008_N (8-Pin Small Outline Integrated Circuit 1.27 mm Pitch, IPC Medium Density)
pins: 1 GND (power), 2 IN (power), 3 IN (power), 4 ~{EN} (in), 5 ~{OC} (out), 6 OUT (power), 7 OUT (power), 8 OUT (power)

## TPS3307-18D
designator U?
Micropower_Supply_Voltage_Supervisor; PartNumber: Zmod_TPS3307-18D; Power Rating: ??; ECAD_Revision: 1; Librarian: UK; HelpURL: C:\ZRLaptop\Altium6Work_Laptop\ZIM_V1\Module\74lv74ad.pdf; Item: *
footprint SOIC8
footprint SOIC8_210
footprint D008_L (8-Pin Small Outline Integrated Circuit 1.27 mm Pitch, IPC High Density)
footprint D008_M (8-Pin Small Outline Integrated Circuit 1.27 mm Pitch, IPC Low Density)
footprint D008_N (8-Pin Small Outline Integrated Circuit 1.27 mm Pitch, IPC Medium Density)
footprint TSSOP8
footprint TSSOP-8 (Shrink Small Outline; 8 Leads; Body Width 4.4 mm; Pitch 0.65 mm)
part A pins: 1 SENSE1, 2 SENSE2, 3 SENSE3, 5 CONTROL (out), 6 RES (out), 7 ~{WR} (in)
part B pins: 4 (power), 8 (power)
part B text: VCC; GND

## TPS64200DBVT
designator U?
Step_down_controller; PartNumber: Zmod_TPS64200DBVT; Power Rating: ??; ECAD_Revision: 1; Librarian: UK; HelpURL: C:\ZRLaptop\Altium6Work_Laptop\ZIM_V1\Module\74lv74ad.pdf; Item: *
footprint SOT23-6 (SOT-457/SC-74; 6 Leads; Body 3 x 3 mm, inc. leads (LxW max))
pins: 1 ~{EN} (power), 2 GND (power), 3 FB (power), 4 ISENSE (power), 5 VIN (power), 6 SW (power)